# Altium footprint library PCB_2020-04-17_STM32F103RCT6.PcbLib: 29 footprints (part 2 of 2)
Each footprint in its own frame and in the unit in brackets; x right, y up, seen from the top. Pads: shape width x height; smd on the part's side, far side on the other; paste and mask are expansions set on the pad; w line width, h text height; cw(c..) or ccw(c..) is an arc to the next point about the centre after c.
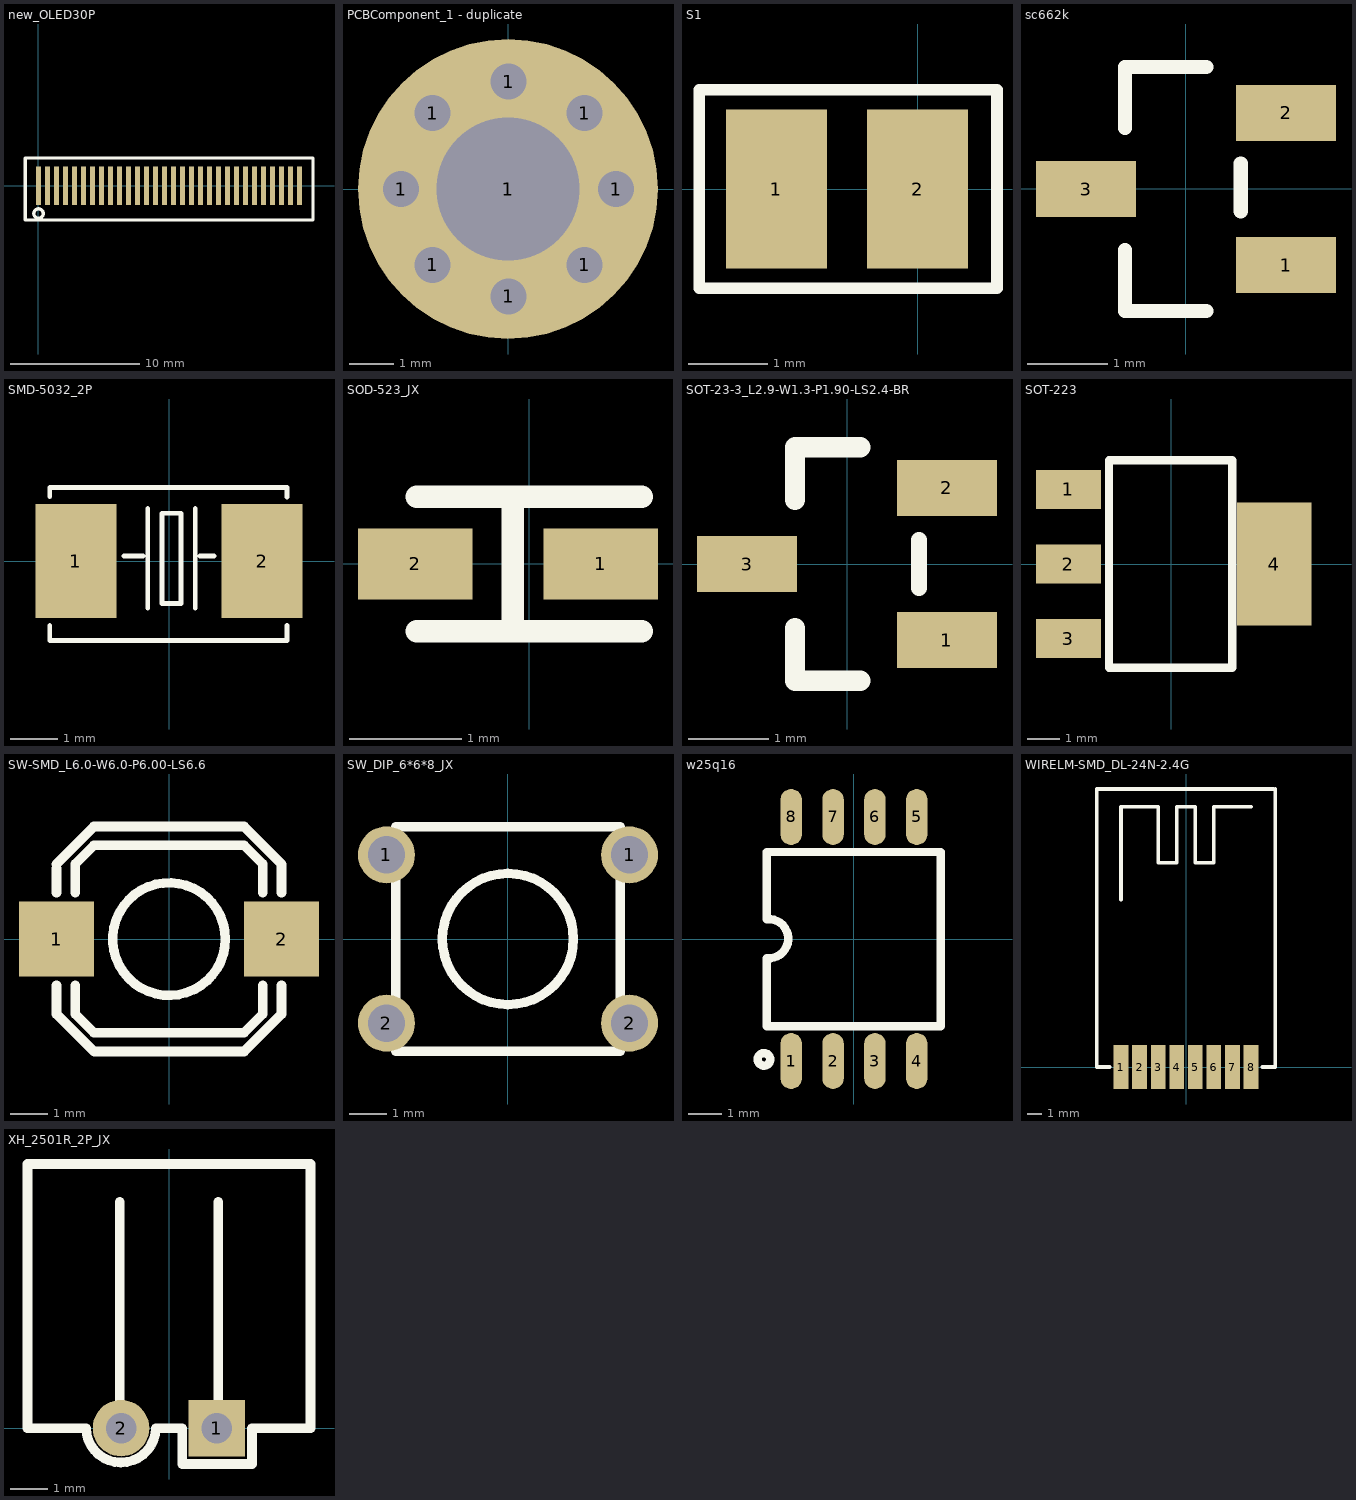
[diagram p1: the footprints below, top view; thin cyan lines are the x and y axes]

## new_OLED30P [mm]
pads (30):
  rect 0.39x3 smd: 1(0,0) 2(0.7,0) 3(1.4,0) 4(2.1,0) 5(2.8,0) 6(3.5,0) 7(4.2,0) 8(4.9,0) 9(5.6,0) 10(6.3,0) 11(7,0) 12(7.7,0) 13(8.4,0) 14(9.1,0) 15(9.8,0) 16(10.5,0) 17(11.2,0) 18(11.9,0) 19(12.6,0) 20(13.3,0) 21(14,0) 22(14.7,0) 23(15.4,0) 24(16.1,0) 25(16.8,0) 26(17.5,0) 27(18.2,0) 28(18.9,0) 29(19.6,0) 30(20.3,0)
Top Overlay:
  circle w0.254: c0.016,-2.159 r0.365
  lines w0.254: -1.016,-2.667 21.336,-2.667 21.336,2.159 -1.016,2.159 -1.016,-2.667

## PCBComponent_1 - duplicate [mm]
pads (9):
  round 1.2 hole 0.8: 1(-2.387,0) 1(-1.684,-1.697) 1(-1.684,1.697) 1(0.013,-2.4) 1(0.013,2.4) 1(1.71,1.697) 1(1.71,-1.697) 1(2.413,0)
  round 6.7 hole 3.2: 1(0,0)

## S1 [mm]
pads (2):
  rect 1.27x2 smd: 1(-1.778,0) 2(0,0)
Top Overlay:
  lines w0.15: -2.75,-1.25 -2.75,1.25 1,1.25 1,-1.25 -2.75,-1.25

## sc662k [mm]
pads (3):
  rect 1.25x0.7 smd: 1(1.25,-0.95) 2(1.25,0.95) 3(-1.25,0)
Top Overlay:
  lines w0.178: -0.762,-0.762 -0.762,-1.524 0.254,-1.524 ; -0.762,0.762 -0.762,1.524 0.254,1.524 ; 0.686,-0.279 0.686,0.32

## SMD-5032_2P [mm]
pads (2):
  rect 1.7x2.4 smd: 1(-1.96,0.001) 2(1.96,-0.001)
Top Overlay:
  lines w0.1: -0.946,0.109 -0.546,0.109 ; -0.446,-0.991 -0.446,1.109 ; 0.554,-0.991 0.554,1.109 ; 0.654,0.109 0.954,0.109 ; -0.146,-0.891 -0.146,1.009 0.254,1.009 0.254,-0.891 -0.146,-0.891
  lines w0.102: -2.513,-1.67 2.486,-1.67 ; -2.512,-1.67 -2.512,-1.354 ; -2.512,1.355 -2.512,1.549 2.489,1.549 2.489,1.354 ; 2.489,-1.67 2.489,-1.355

## SOD-523_JX [mil]
pads (2):
  rect 40x25 smd: 1(25,0) 2(-40,0)
Top Overlay:
  lines w7.87: -39.37,-23.62 39.37,-23.62 ; -39.37,23.62 39.37,23.62 ; -5.91,-23.62 -5.91,23.62

## SOT-23-3_L2.9-W1.3-P1.90-LS2.4-BR [mm]
pads (3):
  rect 1.25x0.7 smd: 1(1.25,-0.95) 2(1.25,0.95) 3(-1.25,0)
Top Overlay:
  lines w0.2: 0.9,-0.3 0.9,0.3
  lines w0.254: -0.65,-0.8 -0.65,-1.46 0.165,-1.46 ; 0.165,1.46 -0.65,1.46 ; -0.65,0.8 -0.65,1.46 ; -0.65,0.8 -0.65,1.46 ; -0.65,0.8 -0.65,1.46

## SOT-223 [mm]
pads (4):
  rect 2x1.2 smd: 1(-3.175,2.3) 2(-3.175,0) 3(-3.175,-2.3)
  rect 2.3x3.8 smd: 4(3.175,0)
Top Overlay:
  lines w0.254: -1.925,-3.2 1.875,-3.2 1.875,3.2 -1.925,3.2 -1.925,-3.2

## SW-SMD_L6.0-W6.0-P6.00-LS6.6 [mm]
pads (2):
  rect 2x2 smd: 1(-3,0) 2(3,0)
Top Overlay:
  circle w0.254: c0.002,-0.002 r1.502
  lines w0.254: -3,-1.231 -3,-2.002 -1.999,-3 2.002,-3 3,-2.002 3,-1.231 ; -3,1.231 -3,1.892 ; -3,1.999 -2.002,3 -1.501,3 2.002,3 3,1.999 3,1.231 ; -2.5,-1.231 -2.5,-2 -2,-2.5 2,-2.5 2.5,-2 2.5,-1.231 ; -2.5,1.231 -2.5,2 -2,2.5 2,2.5 2.5,2 2.5,1.231

## SW_DIP_6*6*8_JX [mil]
pads (4):
  round 60 hole 39.37: 1(-127.9,88.6) 1(128,88.6) 2(-127.9,-88.6) 2(128,-88.6)
Top Overlay:
  circle w10: c0,0 r69
  lines w10: -118,-118 118,-118 118,118 -118,118 -118,-118

## w25q16 [mm]
pads (8):
  oval 0.65x1.698 smd: 1(-1.905,-3.7) 2(-0.635,-3.7) 3(0.635,-3.7) 4(1.905,-3.7) 5(1.905,3.7) 6(0.635,3.7) 7(-0.635,3.7) 8(-1.905,3.7)
Top Overlay:
  circle w0.254: c-2.73,-3.65 r0.191
  lines w0.254: -2.64,-0.58 -2.64,-2 -2.64,-2.65 2.63,-2.65 2.63,2.64 -2.64,2.64 -2.64,2 -2.64,0.6 ; -2.63,-0.58 ccw(c-2.585,0.01) -2.63,0.6

## WIRELM-SMD_DL-24N-2.4G [mm]
pads (8):
  rect 1x3 smd: 1(-4.445,0) 2(-3.175,0) 3(-1.905,0) 4(-0.635,0) 5(0.635,0) 6(1.905,0) 7(3.175,0) 8(4.445,0)
Top Overlay:
  lines w0.254: -6.096,19 -6.096,0 -5.207,0 ; -6.045,19 5.955,19 ; -4.445,11.43 -4.445,17.78 -1.905,17.78 -1.905,13.97 -0.635,13.97 -0.635,17.78 0.635,17.78 0.635,13.97 1.905,13.97 1.905,17.78 4.445,17.78 ; 5.207,0 6.096,0 6.096,19

## XH_2501R_2P_JX [mm]
pads (2):
  rect 1.5x1.5 hole 0.81: 1(1.27,0)
  round 1.5 hole 0.81: 2(-1.27,0)
Top Overlay:
  lines w0.254: -1.3,0 -1.3,6 ; 1.3,0 1.3,6 ; -3.75,0 -3.75,7 3.75,7 3.75,0 2.2,0 2.2,-0.95 0.35,-0.95 0.35,0 0,0 -0.35,0 cw(c-1.275,0.015) -2.2,0 -3.75,0